# Altium schematic symbol library NODE_MCU_EXTEND_Project.SchLib: 10 symbols
Pins are listed as number, name and electrical type; pins without a type are passive.

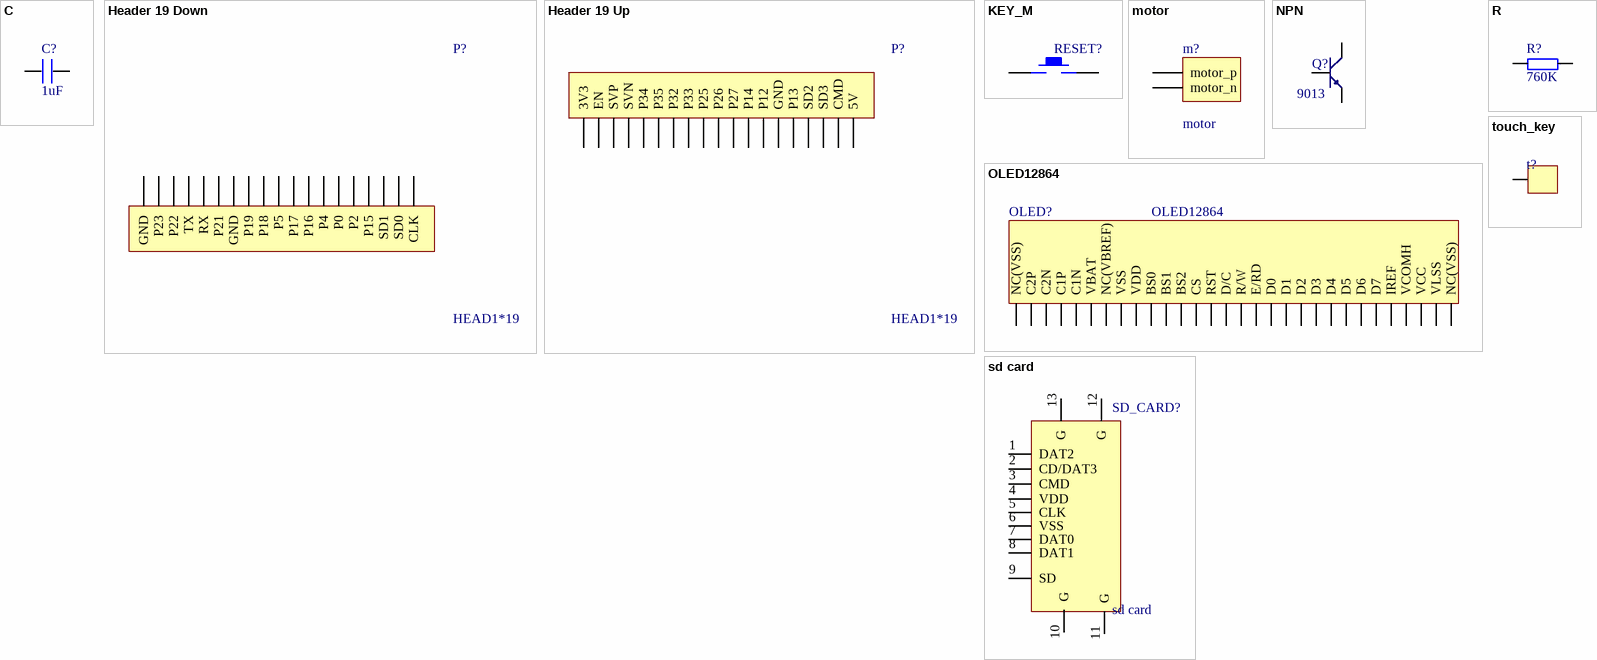
[diagram p0: symbols C to touch_key]

## C
designator C?, comment 1uF
footprint 0603P - duplicate
pins: 1, 2

## Header 19 Down
designator P?, comment HEAD1*19
LatestRevisionDate: 17-Jul-2002; LatestRevisionNote: Re-released for DXP Platform.; Publisher: Altium Limited
signal-integrity model Connector
footprint HDR1X19
pins: 1 GND, 2 P23, 3 P22, 4 TX, 5 RX, 6 P21, 7 GND, 8 P19, 9 P18, 10 P5, 11 P17, 12 P16, 13 P4, 14 P0, 15 P2, 16 P15, 17 SD1, 18 SD0, 19 CLK

## Header 19 Up
designator P?, comment HEAD1*19
LatestRevisionDate: 17-Jul-2002; LatestRevisionNote: Re-released for DXP Platform.; Publisher: Altium Limited
signal-integrity model Connector
footprint HDR1X19
pins: 1 3V3, 2 EN, 3 SVP, 4 SVN, 5 P34, 6 P35, 7 P32, 8 P33, 9 P25, 10 P26, 11 P27, 12 P14, 13 P12, 14 GND, 15 P13, 16 SD2, 17 SD3, 18 CMD, 19 5V

## KEY_M
designator RESET?  (value not drawn)
footprint KEY
pins: 1, 2

## motor
designator m?
LatestRevisionDate: 17-Jul-2002; LatestRevisionNote: Re-released for DXP Platform.; Publisher: Altium Limited
signal-integrity model Connector
footprint motor
pins: 1 motor_p, 2 motor_n

## NPN
designator Q?, comment 9013
footprint SOT23-JL
pins: 1 B, 2 E, 3 C

## OLED12864
designator OLED?
footprint OLED_1.3
pins: 1 NC(VSS), 2 C2P, 3 C2N, 4 C1P, 5 C1N, 6 VBAT, 7 NC(VBREF), 8 VSS, 9 VDD, 10 BS0, 11 BS1, 12 BS2, 13 CS, 14 RST, 15 D/C, 16 R/W, 17 E/RD, 18 D0, 19 D1, 20 D2, 21 D3, 22 D4, 23 D5, 24 D6, 25 D7, 26 IREF, 27 VCOMH, 28 VCC, 29 VLSS, 30 NC(VSS)

## R
designator R?, comment 760K
footprint 0603P - duplicate
pins: 1, 2

## sd card
designator SD_CARD?
footprint CON-TFCARD/AUTO-EJECT
pins: 1 DAT2, 2 CD/DAT3, 3 CMD, 4 VDD, 5 CLK, 6 VSS, 7 DAT0, 8 DAT1, 9 SD, 10 G, 11 G, 12 G, 13 G

## touch_key
designator t?
touch_key
footprint touch_key
pins: 1